# Altium schematic symbol library Header_Sch.SchLib: 38 symbols
Pins are listed as number, name and electrical type; pins without a type are passive.

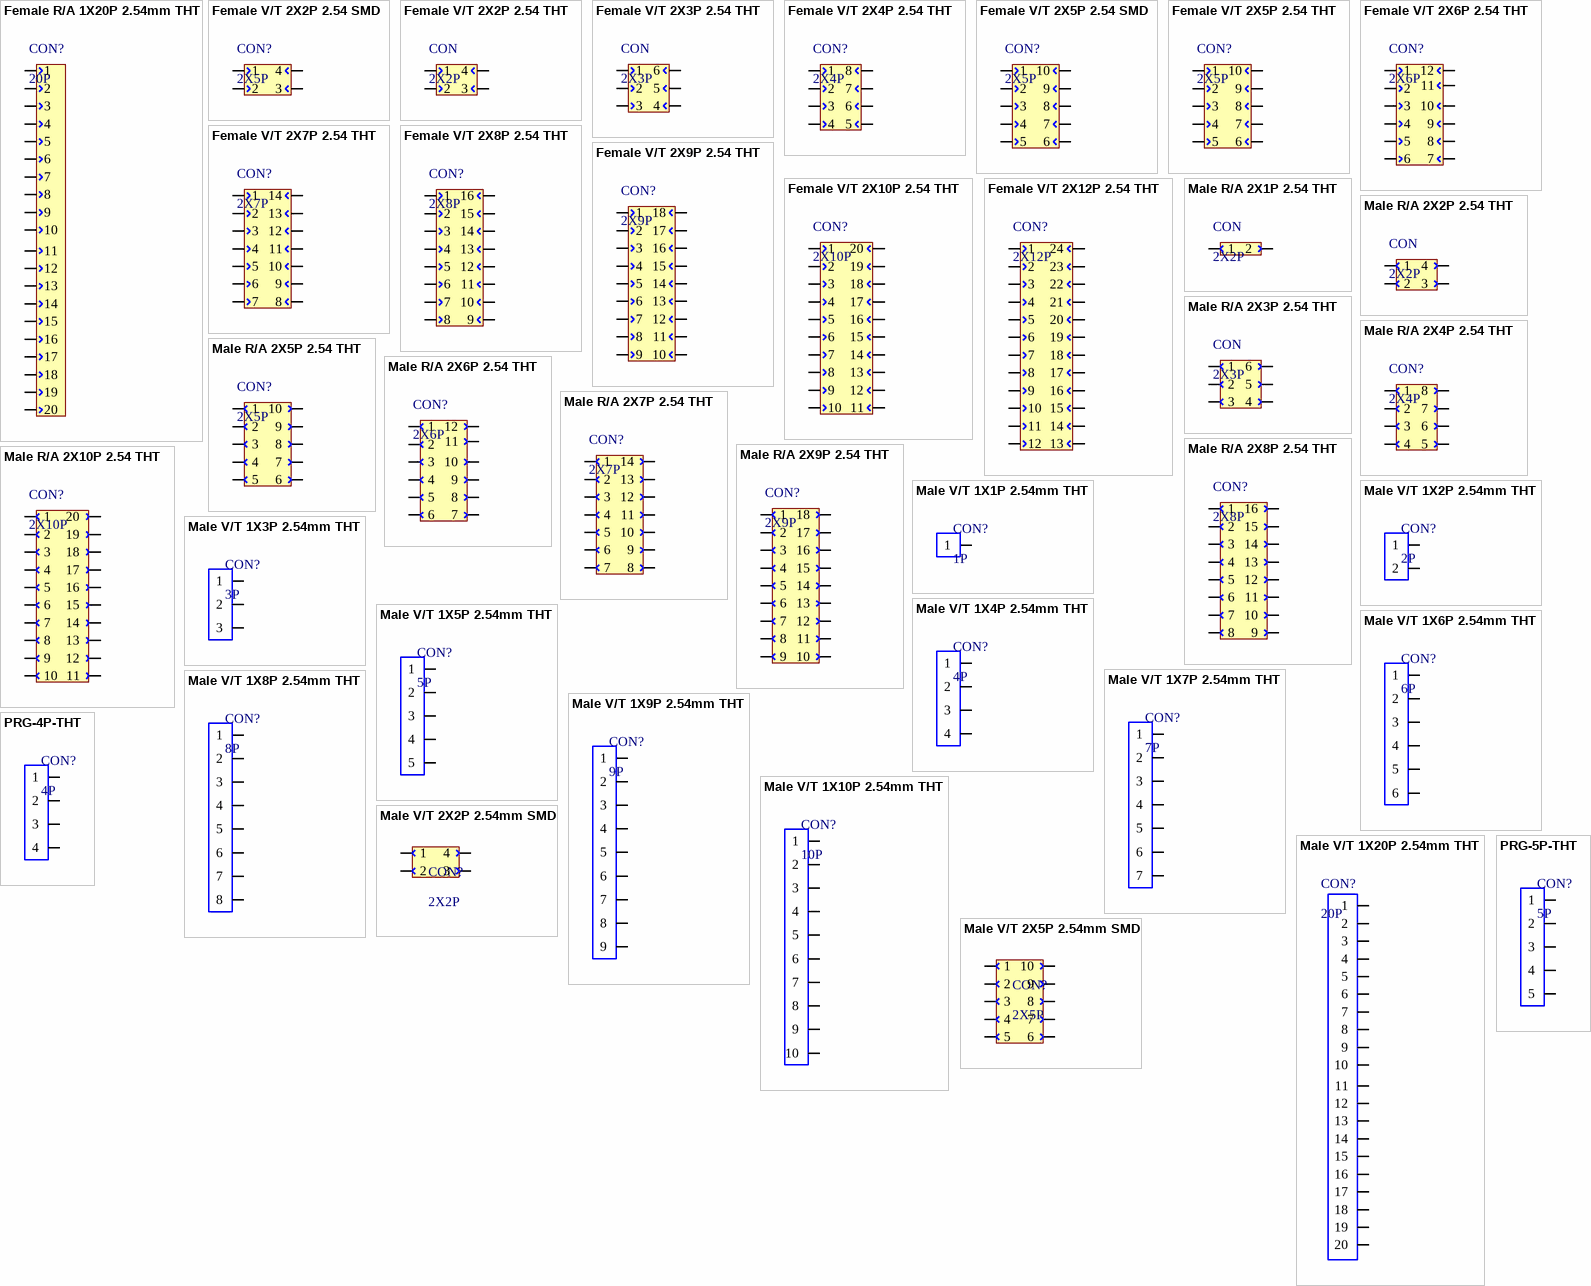
[diagram p0: symbols Female R/A 1X20P 2.54mm THT to PRG-5P-THT]

## Female R/A 1X20P 2.54mm THT
designator CON?, comment 20P
footprint female_tht_r/a_1x2p0_2.54mm
pins: 1, 2, 3, 4, 5, 6, 7, 8, 9, 10, 11, 12, 13, 14, 15, 16, 17, 18, 19, 20

## Female V/T 2X2P 2.54 SMD
designator CON?, comment 2X5P
footprint FEMALE_SMD_V/T_2X2P_2.54MM
pins: 1, 2, 3, 4

## Female V/T 2X2P 2.54 THT
designator CON, comment 2X2P
footprint female_tht_v/t_2x2P_2.54mm
pins: 1, 2, 3, 4

## Female V/T 2X3P 2.54 THT
designator CON, comment 2X3P
footprint female_tht_v/t_2x3P_2.54mm
pins: 1, 2, 3, 4, 5, 6

## Female V/T 2X4P 2.54 THT
designator CON?, comment 2X4P
footprint female_tht_v/t_2x4P_2.54mm
pins: 1, 2, 3, 4, 5, 6, 7, 8

## Female V/T 2X5P 2.54 SMD
designator CON?, comment 2X5P
footprint FEMALE_SMD_V/T_2X5P_2.54MM
pins: 1, 2, 3, 4, 5, 6, 7, 8, 9, 10

## Female V/T 2X5P 2.54 THT
designator CON?, comment 2X5P
footprint female_tht_v/t_2x5P_2.54mm
pins: 1, 2, 3, 4, 5, 6, 7, 8, 9, 10

## Female V/T 2X6P 2.54 THT
designator CON?, comment 2X6P
footprint female_tht_v/t_2x6P_2.54mm
pins: 1, 2, 3, 4, 5, 6, 7, 8, 9, 10, 11, 12

## Female V/T 2X7P 2.54 THT
designator CON?, comment 2X7P
footprint female_tht_v/t_2x7P_2.54mm
pins: 1, 2, 3, 4, 5, 6, 7, 8, 9, 10, 11, 12, 13, 14

## Female V/T 2X8P 2.54 THT
designator CON?, comment 2X8P
footprint female_tht_v/t_2x8P_2.54mm
pins: 1, 2, 3, 4, 5, 6, 7, 8, 9, 10, 11, 12, 13, 14, 15, 16

## Female V/T 2X9P 2.54 THT
designator CON?, comment 2X9P
footprint female_tht_v/t_2x9P_2.54mm
pins: 1, 2, 3, 4, 5, 6, 7, 8, 9, 10, 11, 12, 13, 14, 15, 16, 17, 18

## Female V/T 2X10P 2.54 THT
designator CON?, comment 2X10P
footprint female_tht_v/t_2x10P_2.54mm
pins: 1, 2, 3, 4, 5, 6, 7, 8, 9, 10, 11, 12, 13, 14, 15, 16, 17, 18, 19, 20

## Female V/T 2X12P 2.54 THT
designator CON?, comment 2X12P
footprint female_tht_v/t_2x12P_2.54mm
pins: 1, 2, 3, 4, 5, 6, 7, 8, 9, 10, 11, 12, 13, 14, 15, 16, 17, 18, 19, 20, 21, 22, 23, 24

## Male R/A 2X1P 2.54 THT
designator CON, comment 2X2P
footprint male_tht_r/a_1x2P_2.54mm
pins: 1, 2

## Male R/A 2X2P 2.54 THT
designator CON, comment 2X2P
footprint male_tht_r/a_2x2P_2.54mm
pins: 1, 2, 3, 4

## Male R/A 2X3P 2.54 THT
designator CON, comment 2X3P
footprint male_tht_r/a_2x3P_2.54mm
pins: 1, 2, 3, 4, 5, 6

## Male R/A 2X4P 2.54 THT
designator CON?, comment 2X4P
footprint male_tht_r/a_2x4P_2.54mm
pins: 1, 2, 3, 4, 5, 6, 7, 8

## Male R/A 2X5P 2.54 THT
designator CON?, comment 2X5P
footprint male_tht_r/a_2x5P_2.54mm
pins: 1, 2, 3, 4, 5, 6, 7, 8, 9, 10

## Male R/A 2X6P 2.54 THT
designator CON?, comment 2X6P
footprint male_tht_r/a_2x6P_2.54mm
pins: 1, 2, 3, 4, 5, 6, 7, 8, 9, 10, 11, 12

## Male R/A 2X7P 2.54 THT
designator CON?, comment 2X7P
footprint male_tht_r/a_2x7P_2.54mm
pins: 1, 2, 3, 4, 5, 6, 7, 8, 9, 10, 11, 12, 13, 14

## Male R/A 2X8P 2.54 THT
designator CON?, comment 2X8P
footprint male_tht_r/a_2x8P_2.54mm
pins: 1, 2, 3, 4, 5, 6, 7, 8, 9, 10, 11, 12, 13, 14, 15, 16

## Male R/A 2X9P 2.54 THT
designator CON?, comment 2X9P
footprint male_tht_r/a_2x9P_2.54mm
pins: 1, 2, 3, 4, 5, 6, 7, 8, 9, 10, 11, 12, 13, 14, 15, 16, 17, 18

## Male R/A 2X10P 2.54 THT
designator CON?, comment 2X10P
footprint male_tht_r/a_2x10P_2.54mm
pins: 1, 2, 3, 4, 5, 6, 7, 8, 9, 10, 11, 12, 13, 14, 15, 16, 17, 18, 19, 20

## Male V/T 1X1P 2.54mm THT
designator CON?, comment 1P
footprint male_tht_v/t_1x1p_2.54mm
pins: 1

## Male V/T 1X2P 2.54mm THT
designator CON?, comment 2P
footprint male_tht_v/t_1x2p_2.54mm
pins: 1, 2

## Male V/T 1X3P 2.54mm THT
designator CON?, comment 3P
footprint male_tht_v/t_1x3p_2.54mm
pins: 1, 2, 3

## Male V/T 1X4P 2.54mm THT
designator CON?, comment 4P
footprint male_tht_v/t_1x4p_2.54mm
pins: 1, 2, 3, 4

## Male V/T 1X5P 2.54mm THT
designator CON?, comment 5P
footprint male_tht_v/t_1x5p_2.54mm
pins: 1, 2, 3, 4, 5

## Male V/T 1X6P 2.54mm THT
designator CON?, comment 6P
footprint male_tht_v/t_1x6p_2.54mm
pins: 1, 2, 3, 4, 5, 6

## Male V/T 1X7P 2.54mm THT
designator CON?, comment 7P
footprint male_tht_v/t_1x7p_2.54mm
pins: 1, 2, 3, 4, 5, 6, 7

## Male V/T 1X8P 2.54mm THT
designator CON?, comment 8P
footprint male_tht_v/t_1x8p_2.54mm
pins: 1, 2, 3, 4, 5, 6, 7, 8

## Male V/T 1X9P 2.54mm THT
designator CON?, comment 9P
footprint male_tht_v/t_1x9p_2.54mm
pins: 1, 2, 3, 4, 5, 6, 7, 8, 9

## Male V/T 1X10P 2.54mm THT
designator CON?, comment 10P
footprint male_tht_v/t_1x10p_2.54mm
pins: 1, 2, 3, 4, 5, 6, 7, 8, 9, 10

## Male V/T 1X20P 2.54mm THT
designator CON?, comment 20P
footprint male_tht_v/t_1x20p_2.54mm
pins: 1, 2, 3, 4, 5, 6, 7, 8, 9, 10, 11, 12, 13, 14, 15, 16, 17, 18, 19, 20

## Male V/T 2X2P 2.54mm SMD
designator CON?, comment 2X2P
ComponentLink1Description: Link
footprint MALE_SMD_V/T_2X2P_2.54MM
pins: 1, 2, 3, 4

## Male V/T 2X5P 2.54mm SMD
designator CON?, comment 2X5P
ComponentLink1Description: Link
footprint MALE_SMD_V/T_2X5P_2.54MM
pins: 1, 2, 3, 4, 5, 6, 7, 8, 9, 10

## PRG-4P-THT
designator CON?, comment 4P
footprint PRG-4P-THT-UNALIGNED
pins: 1, 2, 3, 4

## PRG-5P-THT
designator CON?, comment 5P
footprint PRG-5P-THT-UNALIGNED
pins: 1, 2, 3, 4, 5